# EAGLE library part 653113124022 (library Wire-to-Board (rev18a))
WR-WTB 1.25mm SMT Male Vertical Shrouded Header, 13 Pins=>Code : Con_WTB_1.25_PCB_SMT_653113124022 <http://katalog.we-online.de/media/thumbs2/eican/thb_Con_WTB_1.25_PCB_SMT_6530xx124022_pf2.psd.jpg> Details see: http://katalog.we-online.de/en/em/WTB_1_25_SMT_MALE_VERTICAL_SHROUDED_HEADER_6531XX124022 Created 2014-06-06, Karrer Zheng 2014 (C) Würth Elektronik
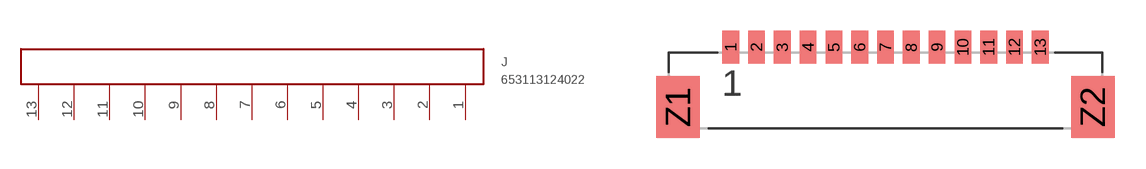
[diagram p60: symbol with the pads of 653113124022; footprint 653113124022]

Designator prefix J

## 653113124022  [653113124022]
1  13  pas
2  12  pas
3  11  pas
4  10  pas
5  9  pas
6  8  pas
7  7  pas
8  6  pas
9  5  pas
10  4  pas
11  3  pas
12  2  pas
13  1  pas

## Footprint 653113124022 (pad centres in mm)
WR-WTB 1.25mm SMT Male Vertical Shrouded Header, 13 Pins
smd 0.81 x 1.6: 1 -7.5,0; 2 -6.25,0; 3 -5,0; 4 -3.75,0; 5 -2.5,0; 6 -1.25,0; 7 0,0; 8 1.25,0; 9 2.5,0; 10 3.75,0; 11 5,0; 12 6.25,0; 13 7.5,0
smd 2.1 x 3: Z1 -10.05,-2.9; Z2 10.05,-2.9